# Altium footprint library LCD2004_I2C.PcbLib: 1 footprints
Each footprint in its own frame and in the unit in brackets; x right, y up, seen from the top. Pads: shape width x height; smd on the part's side, far side on the other; paste and mask are expansions set on the pad; w line width, h text height; cw(c..) or ccw(c..) is an arc to the next point about the centre after c.
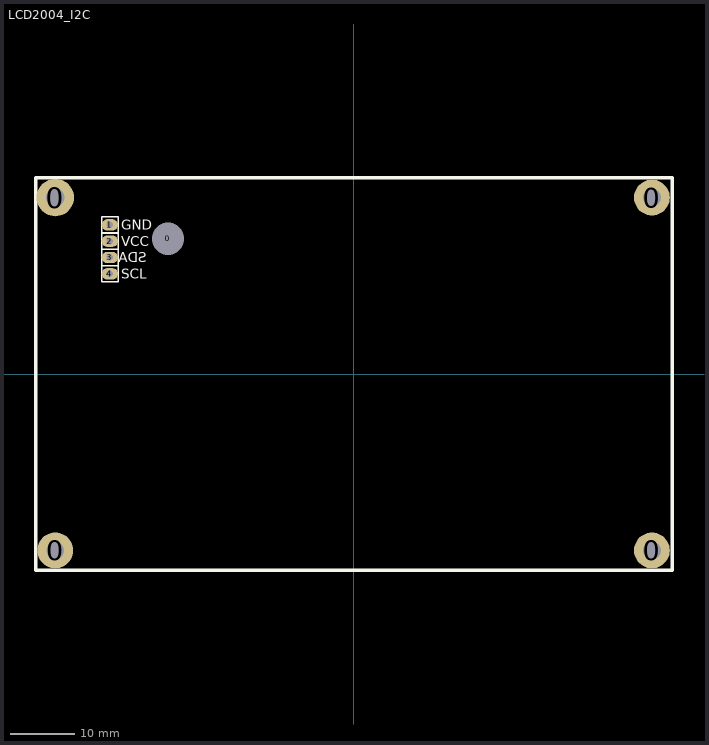
[diagram p0: the footprint, top view; thin cyan lines are the x and y axes]

## LCD2004_I2C [mil]
pads (9):
  round 220 hole 110: 0(-1830.71,-1082.68) 0(1830.71,-1082.68) 0(1830.71,1082.68)
  round 230 hole 115: 0(-1830.71,1082.68)
  round 60 hole 196.85 unplated: 0(-1140,830)
  oval 100x70 hole 40: 1(-1496.06,915) 2(-1496.06,815) 3(-1496.06,715) 4(-1496.06,615)
Top Overlay:
  lines w10: -1545,665 -1445,665 ; -1545,665 -1545,765 ; -1545,665 -1445,665 ; -1545,665 -1545,565 -1445,565 -1445,665 ; -1545,765 -1445,765 ; -1545,765 -1445,765 ; -1545,765 -1545,865 ; -1545,865 -1445,865 ; -1545,865 -1545,965 -1445,965 -1445,865 ; -1545,865 -1445,865 ; -1445,665 -1445,765 ; -1445,765 -1445,865
  lines w20: -1950,-1205 1955,-1205 1955,1205 -1950,1205 -1950,-1205
  text "SCL" at -1425,585 h60
  text "GND" at -1425,885 h60
  text "VCC" at -1425,785 h60
  text "SDA" at -1269.84,685 h60
Bottom Overlay:
  text "GND" at -1269.84,885 h60
  text "VCC" at -1269.84,780 h60
  text "SCL" at -1265,580 h60
  text "SDA" at -1425,685 h60
3D body "2004+I2C module.STEP": height 913.38, standoff 139.76, extent -1929.13,-1181.1 1929.13,1181.1